# Altium footprint library 1769.PcbLib: 1 footprints
Each footprint in its own frame and in the unit in brackets; x right, y up, seen from the top. Pads: shape width x height; smd on the part's side, far side on the other; paste and mask are expansions set on the pad; w line width, h text height; cw(c..) or ccw(c..) is an arc to the next point about the centre after c.
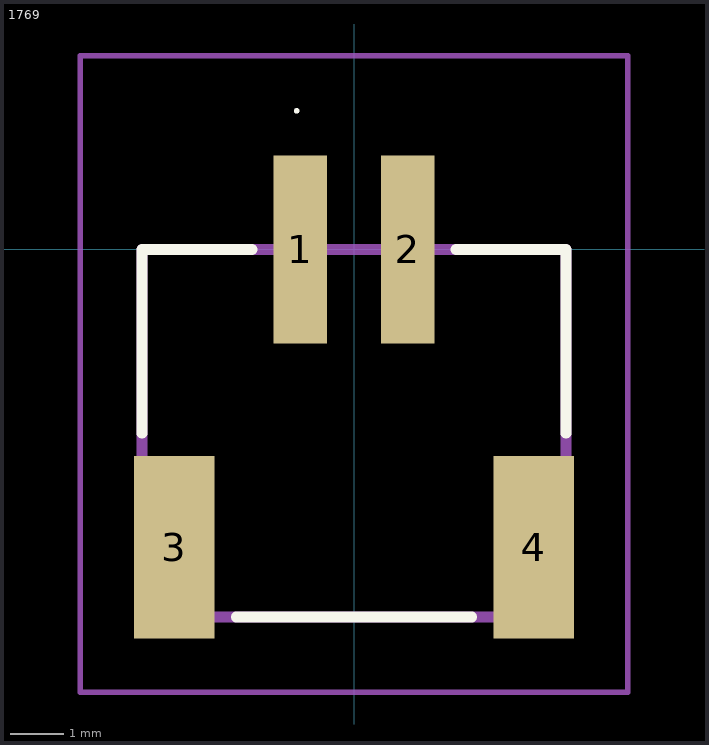
[diagram p0: the footprint, top view; thin cyan lines are the x and y axes]

## 1769 [mm]
pads (4):
  rect 1x3.5 smd: 1(-1,0) 2(1,0)
  rect 1.5x3.4 smd: 3(-3.35,-5.55) 4(3.35,-5.55)
Top Overlay:
  lines w0.052: -1.095,2.582 -1.095,2.582 ; -1.095,2.582 ccw(c-1.069,2.582) -1.043,2.582 ; -1.095,2.582 cw(c-1.069,2.582) -1.043,2.582 ; -1.043,2.582 -1.043,2.582
  lines w0.2: -3.95,-3.425 -3.95,0 -1.9,0 ; -2.196,-6.849 2.196,-6.849 ; 1.9,0 3.95,0 3.95,-3.425
Mechanical 15:
  lines w0.2: -3.95,-6.849 3.95,-6.849 3.95,0 -3.95,0 -3.95,-6.849
Mechanical 20:
  lines w0.1: -5.1,-8.25 5.1,-8.25 5.1,3.608 -5.1,3.608 -5.1,-8.25